# Altium footprint library usb_otg.PcbLib: 2 footprints
Each footprint in its own frame and in the unit in brackets; x right, y up, seen from the top. Pads: shape width x height; smd on the part's side, far side on the other; paste and mask are expansions set on the pad; w line width, h text height; cw(c..) or ccw(c..) is an arc to the next point about the centre after c.
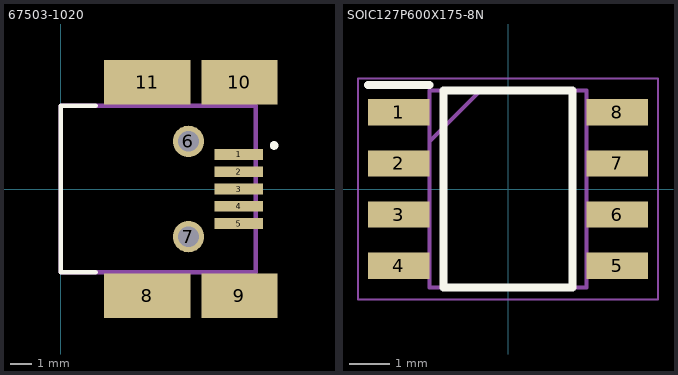
[diagram p0: the footprints below, top view; thin cyan lines are the x and y axes]

## 67503-1020 [mm]
pads (11):
  rect 2.25x0.5 smd: 1(8.225,1.6) 2(8.225,0.8) 3(8.225,0) 4(8.225,-0.8) 5(8.225,-1.6)
  round 1.45 hole 0.95: 6(5.9,2.2) 7(5.9,-2.2)
  rect 4x2.05 smd: 8(4,-4.925) 11(4,4.925)
  rect 3.5x2.05 smd: 9(8.25,-4.925) 10(8.25,4.925)
Top Overlay:
  circle w0.2: c9.854,2.011 r0.101
  lines w0.2: 1.62,-3.85 0,-3.85 0,3.85 1.62,3.85
Mechanical 13:
  lines w0.2: 0,-3.85 0,3.85 9,3.85 9,-3.85 0,-3.85
3D body "67503-1020.stp": height 3.93, standoff -1.02, extent 0,-4.95 9,4.95

## SOIC127P600X175-8N [mm]
pads (8):
  rect 1.525x0.65 smd: 1(-2.712,1.905) 2(-2.712,0.635) 3(-2.712,-0.635) 4(-2.712,-1.905) 5(2.712,-1.905) 6(2.712,-0.635) 7(2.712,0.635) 8(2.712,1.905)
Top Overlay:
  lines w0.2: -3.475,2.58 -1.95,2.58 ; -1.6,-2.45 1.6,-2.45 1.6,2.45 -1.6,2.45 -1.6,-2.45
Mechanical 13:
  lines w0.1: -1.95,1.18 -0.68,2.45 ; -1.95,-2.45 1.95,-2.45 1.95,2.45 -1.95,2.45 -1.95,-2.45
Mechanical 15:
  lines w0.05: -3.725,-2.75 3.725,-2.75 3.725,2.75 -3.725,2.75 -3.725,-2.75
3D body "NE555DR.stp": height 1.75, standoff 0, extent -3,-2.45 3,2.45